# EAGLE library part ATARI-MODUL (library TF_Atari)
ATARI-MODUL
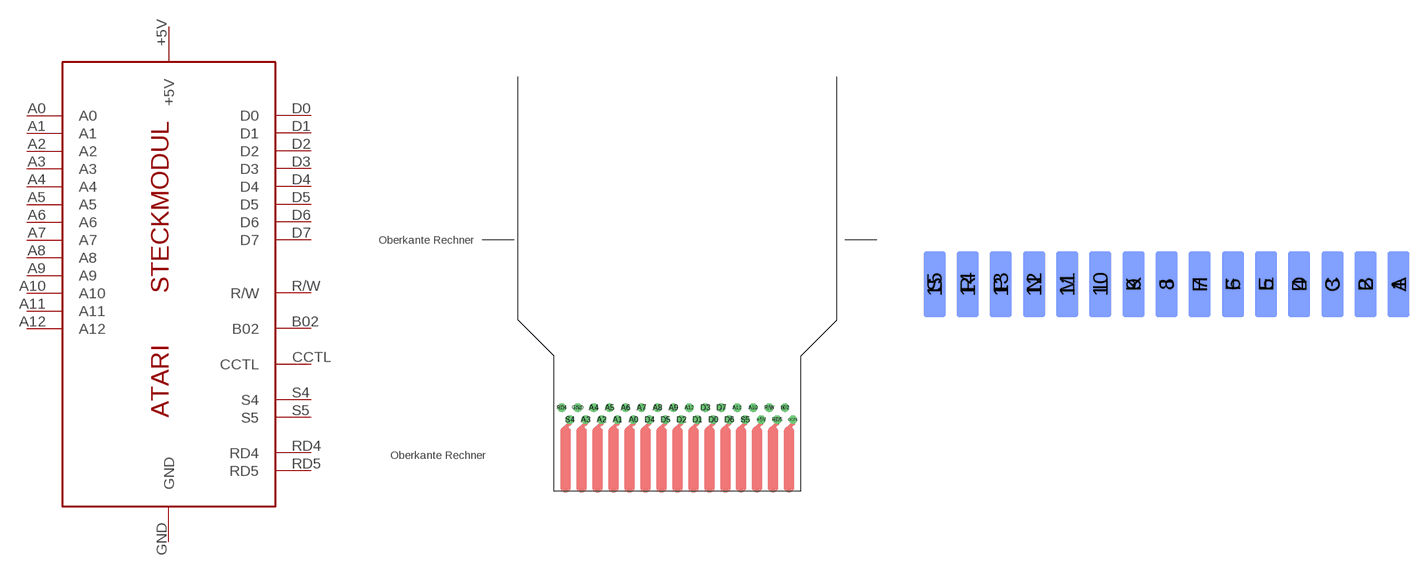
[diagram p0: symbol with the pads of ATARI-MODUL; footprints ATARI-MODUL, TFSDXCART]

Designator prefix T

## ATARI-MODUL  [ATARI-MODUL]
+5V  +5V
A0  A0
A1  A1
A2  A2
A3  A3
A4  A4
A5  A5
A6  A6
A7  A7
A8  A8
A9  A9
A10  A10
A11  A11
A12  A12
B02  B02
CCTL  CCTL
D0  D0
D1  D1
D2  D2
D3  D3
D4  D4
D5  D5
D6  D6
D7  D7
GND  GND
R/W  R/W
RD4  RD4
RD5  RD5
S4  S4
S5  S5

## ATARI-MODUL$  [TFSDXCART]
1  S4
2  A3
3  A2
4  A1
5  A0
6  D4
7  D5
8  D2
9  D1
10  D0
11  D6
12  S5
13  +5V
14  RD5
15  CCTL
A  RD4
B  GND
C  A4
D  A5
E  A6
F  A7
H  A8
J  A9
K  A12
L  D3
M  D7
N  A11
P  A10
R  R/W
S  B02

## ATARI-MODULB  [TFSDXEXT]
Pads as for TFSDXCART

## Footprint ATARI-MODUL (pad centres in mm)
ATARI-MODUL BUS
drill 0.813: +5V 12.065,-24.765; A0 -8.255,-24.765; A1 -10.795,-24.765; A2 -13.335,-24.765; A3 -15.875,-24.765; A4 -14.605,-22.86; A5 -12.065,-22.86; A6 -9.525,-22.86; A7 -6.985,-22.86; A8 -4.445,-22.86; A9 -1.905,-22.86; A10 10.795,-22.86; A11 8.255,-22.86; A12 0.635,-22.86; B02 15.875,-22.86; CCTL 17.145,-24.765; D0 4.445,-24.765; D1 1.905,-24.765; D2 -0.635,-24.765; D3 3.175,-22.86; D4 -5.715,-24.765; D5 -3.175,-24.765; D6 6.985,-24.765; D7 5.715,-22.86; GND -17.145,-22.86; R/W 13.335,-22.86; RD4 -19.685,-22.86; RD5 14.605,-24.765; S4 -18.415,-24.765; S5 9.525,-24.765

## Footprint TFSDXCART (pad centres in mm)
smd 1.676 x 5.08 bottom: 1 17.78,-1.27; 2 15.24,-1.27; 3 12.7,-1.27; 4 10.16,-1.27; 5 7.62,-1.27; 6 5.08,-1.27; 7 2.54,-1.27; 8 0,-1.27; 9 -2.54,-1.27; 10 -5.08,-1.27; 11 -7.62,-1.27; 12 -10.16,-1.27; 13 -12.7,-1.27; 14 -15.24,-1.27; 15 -17.78,-1.27
smd 1.676 x 5.08: A 17.78,-1.27; B 15.24,-1.27; C 12.7,-1.27; D 10.16,-1.27; E 7.62,-1.27; F 5.08,-1.27; H 2.54,-1.27; J 0,-1.27; K -2.54,-1.27; L -5.08,-1.27; M -7.62,-1.27; N -10.16,-1.27; P -12.7,-1.27; R -15.24,-1.27; S -17.78,-1.27

## Footprint TFSDXEXT (pad centres in mm)
smd 1.676 x 7.62 bottom: 1 17.78,-3.81; 2 15.24,-3.81; 3 12.7,-3.81; 4 10.16,-3.81; 5 7.62,-3.81; 6 5.08,-3.81; 7 2.54,-3.81; 8 0,-3.81; 9 -2.54,-3.81; 10 -5.08,-3.81; 11 -7.62,-3.81; 12 -10.16,-3.81; 13 -12.7,-3.81; 14 -15.24,-3.81; 15 -17.78,-3.81
smd 1.676 x 7.62: A 17.78,-3.81; B 15.24,-3.81; C 12.7,-3.81; D 10.16,-3.81; E 7.62,-3.81; F 5.08,-3.81; H 2.54,-3.81; J 0,-3.81; K -2.54,-3.81; L -5.08,-3.81; M -7.62,-3.81; N -10.16,-3.81; P -12.7,-3.81; R -15.24,-3.81; S -17.78,-3.81